# EAGLE library part FSC-BT986 (library EYR_Modulos)
FSC-BT986 5.0 Dual Mode Bluetooth Module by Feasycom <https://www.feasycom.com/product-1336.html>
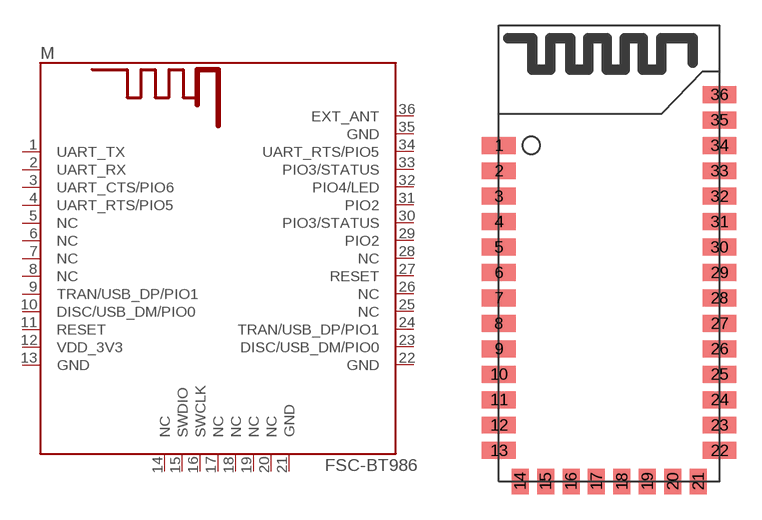
[diagram p6: symbol with the pads of BT_FEASYCOM; footprint BT_FEASYCOM]

Designator prefix M

## FSC-BT986  [BT_FEASYCOM]
1  UART_TX
2  UART_RX
3  UART_CTS/PIO6
4  UART_RTS/PIO5
5  NC
6  NC
7  NC
8  NC
9  TRAN/USB_DP/PIO1
10  DISC/USB_DM/PIO0
11  RESET
12  VDD_3V3
13  GND
14  NC
15  SWDIO
16  SWCLK
17  NC
18  NC
19  NC
20  NC
21  GND
22  GND
23  DISC/USB_DM/PIO0
24  TRAN/USB_DP/PIO1
25  NC
26  NC
27  RESET
28  NC
29  PIO2
30  PIO3/STATUS
31  PIO2
32  PIO4/LED
33  PIO3/STATUS
34  UART_RTS/PIO5
35  GND
36  EXT_ANT

## Footprint BT_FEASYCOM (pad centres in mm)
SMD Bluetooth Feasycom
smd 2 x 1: 1 -6.35,7.62; 2 -6.35,6.12; 3 -6.35,4.62; 4 -6.35,3.12; 5 -6.35,1.62; 6 -6.35,0.12; 7 -6.35,-1.38; 8 -6.35,-2.88; 9 -6.35,-4.38; 10 -6.35,-5.88; 11 -6.35,-7.38; 12 -6.35,-8.88; 13 -6.35,-10.38; 22 6.65,-10.38; 23 6.65,-8.88; 24 6.65,-7.38; 25 6.65,-5.88; 26 6.65,-4.38; 27 6.65,-2.88; 28 6.65,-1.38; 29 6.65,0.12; 30 6.65,1.62; 31 6.65,3.12; 32 6.65,4.62; 33 6.65,6.12; 34 6.65,7.62; 35 6.65,9.12; 36 6.65,10.62
smd 1 x 1.5: 14 -5.1,-12.2; 15 -3.6,-12.2; 16 -2.1,-12.2; 17 -0.6,-12.2; 18 0.9,-12.2; 19 2.4,-12.2; 20 3.9,-12.2; 21 5.4,-12.2